# Altium schematic symbol library header_8_tp1_sct.SchLib: 1 symbol
Pins are listed as number, name and electrical type; pins without a type are passive.

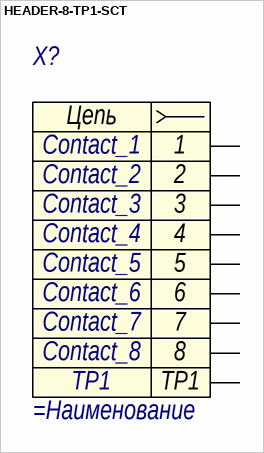
[diagram p0: symbol HEADER-8-TP1-SCT]

## HEADER-8-TP1-SCT
designator X?
=Описание; Contact_1: Contact_1; Contact_2: Contact_2; Contact_3: Contact_3; Contact_4: Contact_4; Contact_5: Contact_5; Contact_6: Contact_6; Contact_7: Contact_7; Contact_8: Contact_8; TP1: TP1
pins: 1, 2, 3, 4, 5, 6, 7, 8, TP1
text: Цепь